# Altium schematic symbol library Schlib1.SchLib: 1 symbol
Pins are listed as number, name and electrical type; pins without a type are passive.

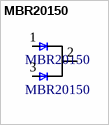
[diagram p0: symbol MBR20150]

## MBR20150
designator MBR20150
pins: 1, 2 3, 3 1